# Altium schematic symbol library IC_IO_EXPANDER_I2C_18DIP.SchLib: 1 symbol
Pins are listed as number, name and electrical type; pins without a type are passive.

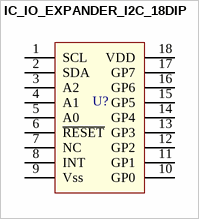
[diagram p0: symbol IC_IO_EXPANDER_I2C_18DIP]

## IC_IO_EXPANDER_I2C_18DIP
designator U?  (value not drawn)
I/O Expander 8 I²C 1.7 MHz 18-PDIP; Supplier 1: Digi-Key; Supplier Part Number 1: MCP23008-E/P-ND
footprint IC_IO_EXPANDER_I2C_18DIP (I/O Expander 8 I²C 1.7 MHz 18-PDIP)
pins: 1 SCL, 2 SDA, 3 A2, 4 A1, 5 A0, 6 ~{RESET}, 7 NC, 8 INT, 9 Vss, 10 GP0, 11 GP1, 12 GP2, 13 GP3, 14 GP4, 15 GP5, 16 GP6, 17 GP7, 18 VDD